# Altium footprint library Inductors SMD.PcbLib: 67 footprints (part 5 of 5)
Each footprint in its own frame and in the unit in brackets; x right, y up, seen from the top. Pads: shape width x height; smd on the part's side, far side on the other; paste and mask are expansions set on the pad; w line width, h text height; cw(c..) or ccw(c..) is an arc to the next point about the centre after c.
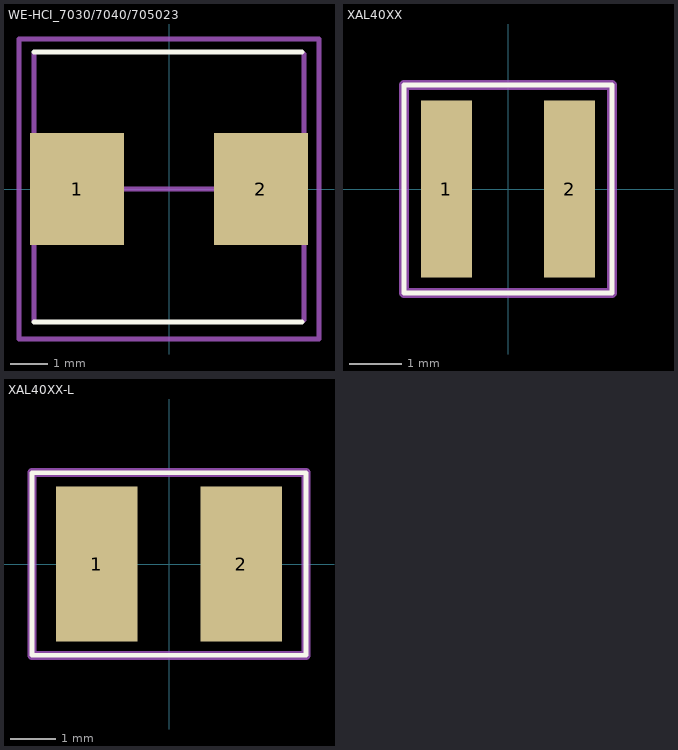
[diagram p4: the footprints below, top view; thin cyan lines are the x and y axes]

## WE-HCI_7030/7040/705023 [mm]
pads (2):
  rect 2.5x3 smd: 1(-2.45,0) 2(2.45,0)
Top Overlay:
  lines w0.127: -3.6,-3.55 3.55,-3.55 ; -3.6,3.65 3.55,3.65
Mechanical 13:
  lines w0.127: -3.6,-3.5 -3.6,3.6 ; -2.5,0 2.5,0 ; 3.6,-3.5 3.6,3.6
Mechanical 15:
  lines w0.127: -4,-4 4,-4 4,4 -4,4 -4,-4
3D body "744311100.stp": height 4.8, standoff 0.01, extent -3.5,-3.45 3.5,3.45

## XAL40XX [mm]
pads (2):
  rect 0.98x3.4 smd: 1(-1.185,0) 2(1.185,0)
Top Overlay:
  lines w0.1: -2,-2 -2,2 2,2 2,-2 -2,-2
Mechanical 13:
  lines w0.2: -2,-2 2,-2 2,2 -2,2 -2,-2
3D body "XAL4020-222MEC.stp": height 2.1, standoff 0, extent -2,-2 2,2

## XAL40XX-L [mm]
pads (2):
  rect 1.78x3.4 smd: 1(-1.585,0) 2(1.585,0)
Top Overlay:
  lines w0.1: -3,-2 -3,2 3,2 3,-2 -3,-2
Mechanical 13:
  lines w0.2: -3,-2 3,-2 3,2 -3,2 -3,-2
3D body "XAL4020-222MEC.stp": height 2.1, standoff 0, extent -2,-2 2,2